# Altium footprint library CONN_HDR_2.00MM_BOX_IDC.PcbLib: 4 footprints
Each footprint in its own frame and in the unit in brackets; x right, y up, seen from the top. Pads: shape width x height; smd on the part's side, far side on the other; paste and mask are expansions set on the pad; w line width, h text height; cw(c..) or ccw(c..) is an arc to the next point about the centre after c.
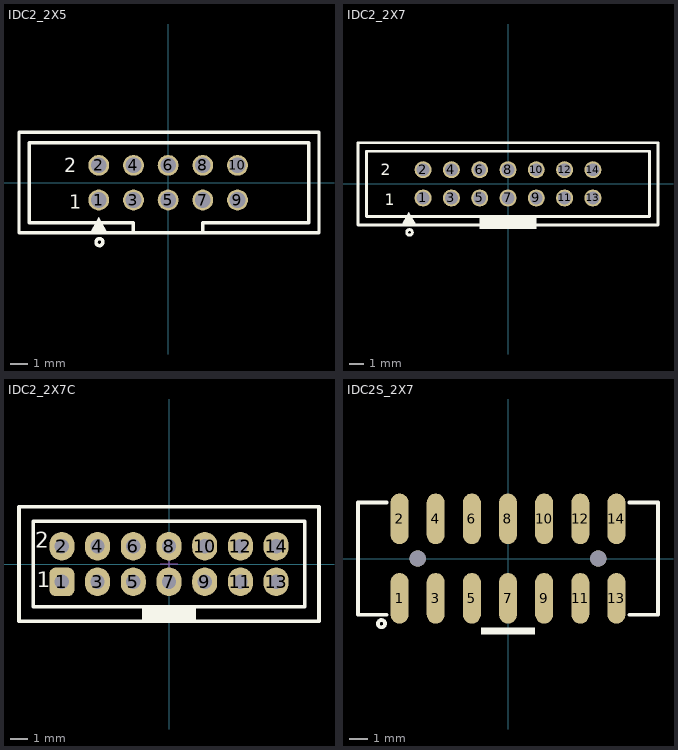
[diagram p0: the footprints below, top view; thin cyan lines are the x and y axes]

## IDC2_2X5 [mm] "Connector; Header; 2mm Pitch"
pads (10):
  round 1.2 / inner round 1.2 / far side oval 1.2x1.6 hole 0.9: 1(-4,-1) 2(-4,1) 3(-2,-1) 4(-2,1) 5(0,-1) 6(0,1) 7(2,-1) 8(2,1) 9(4,-1) 10(4,1)
Top Overlay:
  circle w0.2: c-3.96,-3.43 r0.2
  region: -3.5,-2.9 -4,-2 -4.5,-2.9
  lines w0.2: -2,-2.9 -2,-2.3 -8,-2.3 -8,2.3 8.1,2.3 8.1,-2.3 2,-2.3 2,-2.9 ; -8.6,-2.9 -8.6,2.9 8.7,2.9 8.7,-2.9 -8.6,-2.9
  text "2" at -6,0.6 h0.8
  text "1" at -5.7,-1.5 h0.8
3D body "header_awhw210g-0202.stp": height 5.85, standoff -2.7, extent -8.5,-2.75 8.5,2.75

## IDC2_2X7 [mm] "Connector; Header; 2mm Pitch"
pads (14):
  round 1.2 / inner round 1.2 / far side oval 1.2x1.6 hole 0.9: 1(-6,-1) 2(-6,1) 3(-4,-1) 4(-4,1) 5(-2,-1) 6(-2,1) 7(0,-1) 8(0,1) 9(2,-1) 10(2,1) 11(4,-1) 12(4,1) 13(6,-1) 14(6,1)
Top Overlay:
  circle w0.2: c-6.96,-3.43 r0.2
  rectangle: -2,-3.2 2,-2.2
  region: -6.5,-2.9 -7,-2 -7.5,-2.9
  lines w0.2: -10.6,-2.9 -10.6,2.9 10.6,2.9 10.6,-2.9 -10.6,-2.9 ; -10,-2.3 10,-2.3 10,2.3 -10,2.3 -10,-2.3
  text "2" at -9,0.6 h0.8
  text "1" at -8.7,-1.5 h0.8
3D body "header_awhw214g-0202.stp": height 5.75, standoff -2.8, extent -10.5,-2.75 10.5,2.75

## IDC2_2X7C [mm] "2.00mm Male Box Header, 14p, compact, 878311420, mating 875681443"
height 5.6
pads (14):
  rrect50% 1.4x1.6 hole 0.8: 1(-6,-1)
  oval 1.4x1.6 hole 0.8: 2(-6,1) 3(-4,-1) 4(-4,1) 5(-2,-1) 6(-2,1) 7(0,-1) 8(0,1) 9(2,-1) 10(2,1) 11(4,-1) 12(4,1) 13(6,-1) 14(6,1)
Top Overlay:
  rectangle: -1.5,-3.2 1.5,-2.4
  lines w0.2: -8.4,-3.2 -8.4,3.2 8.4,3.2 8.4,-3.2 -8.4,-3.2 ; -7.6,-2.4 7.6,-2.4 7.6,2.4 -7.6,2.4 -7.6,-2.4
  text "2" at -7.5,0.6 h1.5
  text "1" at -7.4,-1.6 h1.5
Mechanical 13:
  lines w0.05: -0.5,0 0.5,0 ; 0,-0.5 0,0.5
3D body "878311420.stp": height 6.2, standoff -2.7, extent -8.325,-3.15 8.325,3.15

## IDC2S_2X7 [mm] "MOLEX 87832-1420"
height 0.7
pads (16):
  oval 1x2.8 smd: 1(-6,-2.2) 2(-6,2.2) 3(-4,-2.2) 4(-4,2.2) 5(-2,-2.2) 6(-2,2.2) 7(0,-2.2) 8(0,2.2) 9(2,-2.2) 10(2,2.2) 11(4,-2.2) 12(4,2.2) 13(6,-2.2) 14(6,2.2)
  round 0.9 hole 0.9 unplated: " "(-5,0) " "(5,0)
Top Overlay:
  circle w0.2: c-7,-3.6 r0.2
  rectangle: -1.5,-4.2 1.5,-3.8
  lines w0.2: -6.7,-3.1 -8.3,-3.1 -8.3,3.1 -6.7,3.1 ; 6.7,-3.1 8.3,-3.1 8.3,3.1 6.7,3.1
3D body "87832-1420.stp": height 7.6, standoff -1, extent -8.325,-3.15 8.325,3.15